# Altium integrated library Microchip Power Mgt Voltage Detector.IntLib: 116 symbols (part 1 of 3)
Pins are listed as number, name and electrical type; pins without a type are passive.

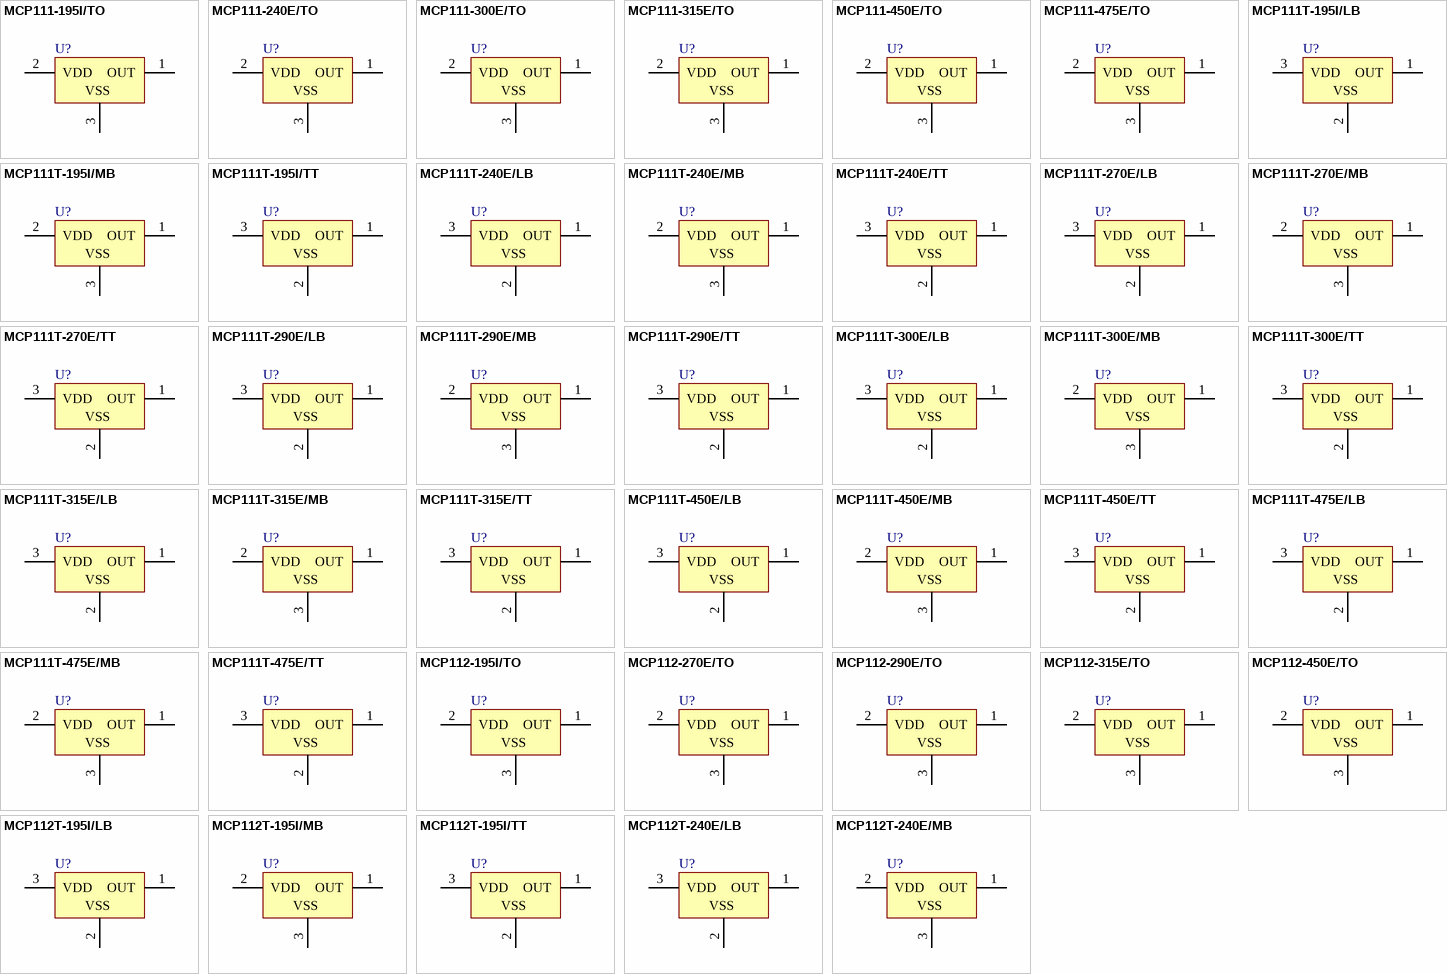
[diagram p0: symbols MCP111-195I/TO to MCP112T-240E/MB]

## MCP111-195I/TO
designator U?
1.75µA Micropower Voltage Detector, Open-Drain Output, 1.90V, 3-Pin TO-92, Industrial Temperature; Published: 29-Jan-2009; DatasheetVersion: revD, Jun-2005; PackageVersion: revBB, Aug-2009; PackageReference: TO-92-TO3; Publisher: Altium Limited; PackageDescription: 3-Lead Plastic Transistor Outline (TO) [TO-92]; Supplier 1: Digi-Key; Supplier Part Number 1: MCP111-195I/TO-ND; Supplier 2: Farnell; Supplier Part Number 2: 1439357; ComponentLink1Description: Datasheet; ComponentLink1URL: http://ww1.microchip.com/downloads/en/DeviceDoc/21889d.pdf; ComponentLink2Description: Packaging Specification; ComponentLink2URL: http://www.microchip.com/stellent/groups/techpub_sg/documents/packagingspec/en012702.pdf; ComponentLink3Description: Microchip.com Home; ComponentLink3URL: http://www.microchip.com/
footprint TO-92-TO3 (TO, Flat Index; 3 In-Line, Axial Leads; Body Dia. 4.8mm; Leads 0.56 x 0.53 mm (max))
pins: 1 OUT (power), 2 VDD (power), 3 VSS (power)

## MCP111-240E/TO
designator U?
1.75µA Micropower Voltage Detector, Open-Drain Output, 2.32V, 3-Pin TO-92, Extended Temperature; Published: 2-Dec-2009; DatasheetVersion: revD, Jun-2005; PackageVersion: revBB, Aug-2009; PackageReference: TO-92-TO3; Publisher: Altium Limited; PackageDescription: 3-Lead Plastic Transistor Outline (TO) [TO-92]; Supplier 1: Digi-Key; Supplier Part Number 1: MCP111-240E/TO-ND; ComponentLink1Description: Datasheet; ComponentLink1URL: http://ww1.microchip.com/downloads/en/DeviceDoc/21889d.pdf; ComponentLink2Description: Packaging Specification; ComponentLink2URL: http://www.microchip.com/stellent/groups/techpub_sg/documents/packagingspec/en012702.pdf; ComponentLink3Description: Microchip.com Home; ComponentLink3URL: http://www.microchip.com/
footprint TO-92-TO3 (TO, Flat Index; 3 In-Line, Axial Leads; Body Dia. 4.8mm; Leads 0.56 x 0.53 mm (max))
pins: 1 OUT (power), 2 VDD (power), 3 VSS (power)

## MCP111-300E/TO
designator U?
1.75µA Micropower Voltage Detector, Open-Drain Output, 2.93V, 3-Pin TO-92, Extended Temperature; Published: 2-Dec-2009; DatasheetVersion: revD, Jun-2005; PackageVersion: revBB, Aug-2009; PackageReference: TO-92-TO3; Publisher: Altium Limited; PackageDescription: 3-Lead Plastic Transistor Outline (TO) [TO-92]; Supplier 1: Digi-Key; Supplier Part Number 1: MCP111-300E/TO-ND; ComponentLink1Description: Datasheet; ComponentLink1URL: http://ww1.microchip.com/downloads/en/DeviceDoc/21889d.pdf; ComponentLink2Description: Packaging Specification; ComponentLink2URL: http://www.microchip.com/stellent/groups/techpub_sg/documents/packagingspec/en012702.pdf; ComponentLink3Description: Microchip.com Home; ComponentLink3URL: http://www.microchip.com/
footprint TO-92-TO3 (TO, Flat Index; 3 In-Line, Axial Leads; Body Dia. 4.8mm; Leads 0.56 x 0.53 mm (max))
pins: 1 OUT (power), 2 VDD (power), 3 VSS (power)

## MCP111-315E/TO
designator U?
1.75µA Micropower Voltage Detector, Open-Drain Output, 3.08V, 3-Pin TO-92, Extended Temperature; Published: 29-Jan-2009; DatasheetVersion: revD, Jun-2005; PackageVersion: revBB, Aug-2009; PackageReference: TO-92-TO3; Publisher: Altium Limited; PackageDescription: 3-Lead Plastic Transistor Outline (TO) [TO-92]; Supplier 1: Digi-Key; Supplier Part Number 1: MCP111-315E/TO-ND; ComponentLink1Description: Datasheet; ComponentLink1URL: http://ww1.microchip.com/downloads/en/DeviceDoc/21889d.pdf; ComponentLink2Description: Packaging Specification; ComponentLink2URL: http://www.microchip.com/stellent/groups/techpub_sg/documents/packagingspec/en012702.pdf; ComponentLink3Description: Microchip.com Home; ComponentLink3URL: http://www.microchip.com/
footprint TO-92-TO3 (TO, Flat Index; 3 In-Line, Axial Leads; Body Dia. 4.8mm; Leads 0.56 x 0.53 mm (max))
pins: 1 OUT (power), 2 VDD (power), 3 VSS (power)

## MCP111-450E/TO
designator U?
1.75µA Micropower Voltage Detector, Open-Drain Output, 4.38V, 3-Pin TO-92, Extended Temperature; Published: 2-Dec-2009; DatasheetVersion: revD, Jun-2005; PackageVersion: revBB, Aug-2009; PackageReference: TO-92-TO3; Publisher: Altium Limited; PackageDescription: 3-Lead Plastic Transistor Outline (TO) [TO-92]; Supplier 1: Digi-Key; Supplier Part Number 1: MCP111-450E/TO-ND; Supplier 2: Farnell; Supplier Part Number 2: 1332056; ComponentLink1Description: Datasheet; ComponentLink1URL: http://ww1.microchip.com/downloads/en/DeviceDoc/21889d.pdf; ComponentLink2Description: Packaging Specification; ComponentLink2URL: http://www.microchip.com/stellent/groups/techpub_sg/documents/packagingspec/en012702.pdf; ComponentLink3Description: Microchip.com Home; ComponentLink3URL: http://www.microchip.com/
footprint TO-92-TO3 (TO, Flat Index; 3 In-Line, Axial Leads; Body Dia. 4.8mm; Leads 0.56 x 0.53 mm (max))
pins: 1 OUT (power), 2 VDD (power), 3 VSS (power)

## MCP111-475E/TO
designator U?
1.75µA Micropower Voltage Detector, Open-Drain Output, 4.63V, 3-Pin TO-92, Extended Temperature; Published: 2-Dec-2009; DatasheetVersion: revD, Jun-2005; PackageVersion: revBB, Aug-2009; PackageReference: TO-92-TO3; Publisher: Altium Limited; PackageDescription: 3-Lead Plastic Transistor Outline (TO) [TO-92]; Supplier 1: Digi-Key; Supplier Part Number 1: MCP111-475E/TO-ND; ComponentLink1Description: Datasheet; ComponentLink1URL: http://ww1.microchip.com/downloads/en/DeviceDoc/21889d.pdf; ComponentLink2Description: Packaging Specification; ComponentLink2URL: http://www.microchip.com/stellent/groups/techpub_sg/documents/packagingspec/en012702.pdf; ComponentLink3Description: Microchip.com Home; ComponentLink3URL: http://www.microchip.com/
footprint TO-92-TO3 (TO, Flat Index; 3 In-Line, Axial Leads; Body Dia. 4.8mm; Leads 0.56 x 0.53 mm (max))
pins: 1 OUT (power), 2 VDD (power), 3 VSS (power)

## MCP111T-195I/LB
designator U?
1.75µA Micropower Voltage Detector, Open-Drain Output, 1.90V, 3-Pin SC-70, Industrial Temperature, Tape and Reel; Published: 29-Jan-2009; DatasheetVersion: revD, Jun-2005; PackageVersion: revBB, Aug-2009; PackageReference: SC70-LB3; Publisher: Altium Limited; PackageDescription: 3-Lead Plastic Small Outline Transistor (LB) [SC70]; Supplier 1: Digi-Key; Supplier Part Number 1: MCP111T-195I/LB-ND; ComponentLink1Description: Datasheet; ComponentLink1URL: http://ww1.microchip.com/downloads/en/DeviceDoc/21889d.pdf; ComponentLink2Description: Packaging Specification; ComponentLink2URL: http://www.microchip.com/stellent/groups/techpub_sg/documents/packagingspec/en012702.pdf; ComponentLink3Description: Microchip.com Home; ComponentLink3URL: http://www.microchip.com/
footprint SC70-LB3_N (SOT323, 3-Leads, Body 2.0x1.3mm, Pitch 0.65mm, Lead Span 2.1mm, IPC Medium Density)
footprint SC70-LB3_L (SOT323, 3-Leads, Body 2.0x1.3mm, Pitch 0.65mm, Lead Span 2.1mm, IPC High Density)
footprint SC70-LB3_M (SOT323, 3-Leads, Body 2.0x1.3mm, Pitch 0.65mm, Lead Span 2.1mm, IPC Low Density)
pins: 1 OUT (power), 2 VSS (power), 3 VDD (power)

## MCP111T-195I/MB
designator U?
1.75µA Micropower Voltage Detector, Open-Drain Output, 1.90V, 3-Pin SOT-89, Industrial Temperature, Tape and Reel; Published: 29-Jan-2009; DatasheetVersion: revD, Jun-2005; PackageVersion: revBB, Aug-2009; PackageReference: SOT-89-MB3; Publisher: Altium Limited; PackageDescription: 3-Lead Plastic Small Outline Transistor Header (MB) [SOT-89]; Code_IPC: SOT89; ComponentLink1Description: Datasheet; ComponentLink1URL: http://ww1.microchip.com/downloads/en/DeviceDoc/21889d.pdf; ComponentLink2Description: Packaging Specification; ComponentLink2URL: http://www.microchip.com/stellent/groups/techpub_sg/documents/packagingspec/en012702.pdf; ComponentLink3Description: Microchip.com Home; ComponentLink3URL: http://www.microchip.com/
footprint SOT-89-MB3_N (SOT89, 3-Leads, Body 4.5x2.4 mm, Pitch 1.5mm, Lead Span 4.1mm, IPC Medium Density)
footprint SOT-89-MB3_L (SOT89, 3-Leads, Body 4.5x2.4 mm, Pitch 1.5mm, Lead Span 4.1mm, IPC High Density)
footprint SOT-89-MB3_M (SOT89, 3-Leads, Body 4.5x2.4 mm, Pitch 1.5mm, Lead Span 4.1mm, IPC Low Density)
pins: 1 OUT (power), 2 VDD (power), 3 VSS (power)

## MCP111T-195I/TT
designator U?
1.75µA Micropower Voltage Detector, Open-Drain Output, 1.90V, 3-Pin SOT-23, Industrial Temperature, Tape and Reel; Published: 29-Jan-2009; DatasheetVersion: revD, Jun-2005; PackageVersion: revBB, Aug-2009; PackageReference: SOT-23-TT3; Publisher: Altium Limited; PackageDescription: 3-Lead Plastic Small Outline Transistor (TT) [SOT-23]; Supplier 1: Digi-Key; Supplier Part Number 1: MCP111T-195I/TT-ND; Code_IPC: SOT23-3; ComponentLink1Description: Datasheet; ComponentLink1URL: http://ww1.microchip.com/downloads/en/DeviceDoc/21889d.pdf; ComponentLink2Description: Packaging Specification; ComponentLink2URL: http://www.microchip.com/stellent/groups/techpub_sg/documents/packagingspec/en012702.pdf; ComponentLink3Description: Microchip.com Home; ComponentLink3URL: http://www.microchip.com/
footprint SOT-23-TT3_N (SOT23, 3-Leads, Body 2.9x1.3mm, Pitch 0.95mm, Lead Span 2.4mm, IPC Medium Density)
footprint SOT-23-TT3_L (SOT23, 3-Leads, Body 2.9x1.3mm, Pitch 0.95mm, Lead Span 2.4mm, IPC High Density)
footprint SOT-23-TT3_M (SOT23, 3-Leads, Body 2.9x1.3mm, Pitch 0.95mm, Lead Span 2.4mm, IPC Low Density)
pins: 1 OUT (power), 2 VSS (power), 3 VDD (power)

## MCP111T-240E/LB
designator U?
1.75µA Micropower Voltage Detector, Open-Drain Output, 2.32V, 3-Pin SC-70, Extended Temperature, Tape and Reel; Published: 29-Jan-2009; DatasheetVersion: revD, Jun-2005; PackageVersion: revBB, Aug-2009; PackageReference: SC70-LB3; Publisher: Altium Limited; PackageDescription: 3-Lead Plastic Small Outline Transistor (LB) [SC70]; Supplier 1: Digi-Key; Supplier Part Number 1: MCP111T-240E/LBTR-ND; Supplier 2: Digi-Key; Supplier Part Number 2: MCP111T-240E/LBCT-ND; Supplier 3: Digi-Key; Supplier Part Number 3: MCP111T-240E/LBDKR-ND; ComponentLink1Description: Datasheet; ComponentLink1URL: http://ww1.microchip.com/downloads/en/DeviceDoc/21889d.pdf; ComponentLink2Description: Packaging Specification; ComponentLink2URL: http://www.microchip.com/stellent/groups/techpub_sg/documents/packagingspec/en012702.pdf; ComponentLink3Description: Microchip.com Home; ComponentLink3URL: http://www.microchip.com/
footprint SC70-LB3_N (SOT323, 3-Leads, Body 2.0x1.3mm, Pitch 0.65mm, Lead Span 2.1mm, IPC Medium Density)
footprint SC70-LB3_L (SOT323, 3-Leads, Body 2.0x1.3mm, Pitch 0.65mm, Lead Span 2.1mm, IPC High Density)
footprint SC70-LB3_M (SOT323, 3-Leads, Body 2.0x1.3mm, Pitch 0.65mm, Lead Span 2.1mm, IPC Low Density)
pins: 1 OUT (power), 2 VSS (power), 3 VDD (power)

## MCP111T-240E/MB
designator U?
1.75µA Micropower Voltage Detector, Open-Drain Output, 2.32V, 3-Pin SOT-89, Extended Temperature, Tape and Reel; Published: 29-Jan-2009; DatasheetVersion: revD, Jun-2005; PackageVersion: revBB, Aug-2009; PackageReference: SOT-89-MB3; Publisher: Altium Limited; PackageDescription: 3-Lead Plastic Small Outline Transistor Header (MB) [SOT-89]; Supplier 1: Digi-Key; Supplier Part Number 1: MCP111T-240E/MB-ND; Code_IPC: SOT89; ComponentLink1Description: Datasheet; ComponentLink1URL: http://ww1.microchip.com/downloads/en/DeviceDoc/21889d.pdf; ComponentLink2Description: Packaging Specification; ComponentLink2URL: http://www.microchip.com/stellent/groups/techpub_sg/documents/packagingspec/en012702.pdf; ComponentLink3Description: Microchip.com Home; ComponentLink3URL: http://www.microchip.com/
footprint SOT-89-MB3_N (SOT89, 3-Leads, Body 4.5x2.4 mm, Pitch 1.5mm, Lead Span 4.1mm, IPC Medium Density)
footprint SOT-89-MB3_L (SOT89, 3-Leads, Body 4.5x2.4 mm, Pitch 1.5mm, Lead Span 4.1mm, IPC High Density)
footprint SOT-89-MB3_M (SOT89, 3-Leads, Body 4.5x2.4 mm, Pitch 1.5mm, Lead Span 4.1mm, IPC Low Density)
pins: 1 OUT (power), 2 VDD (power), 3 VSS (power)

## MCP111T-240E/TT
designator U?
1.75µA Micropower Voltage Detector, Open-Drain Output, 2.32V, 3-Pin SOT-23, Extended Temperature, Tape and Reel; Published: 29-Jan-2009; DatasheetVersion: revD, Jun-2005; PackageVersion: revBB, Aug-2009; PackageReference: SOT-23-TT3; Publisher: Altium Limited; PackageDescription: 3-Lead Plastic Small Outline Transistor (TT) [SOT-23]; Supplier 1: Digi-Key; Supplier Part Number 1: MCP111T-240E/TTTR-ND; Supplier 2: Digi-Key; Supplier Part Number 2: MCP111T-240E/TTCT-ND; Supplier 3: Digi-Key; Supplier Part Number 3: MCP111T-240E/TTDKR-ND; Supplier 4: Farnell; Supplier Part Number 4: 1627192; Code_IPC: SOT23-3; ComponentLink1Description: Datasheet; ComponentLink1URL: http://ww1.microchip.com/downloads/en/DeviceDoc/21889d.pdf; ComponentLink2Description: Packaging Specification; ComponentLink2URL: http://www.microchip.com/stellent/groups/techpub_sg/documents/packagingspec/en012702.pdf; ComponentLink3Description: Microchip.com Home; ComponentLink3URL: http://www.microchip.com/
footprint SOT-23-TT3_N (SOT23, 3-Leads, Body 2.9x1.3mm, Pitch 0.95mm, Lead Span 2.4mm, IPC Medium Density)
footprint SOT-23-TT3_L (SOT23, 3-Leads, Body 2.9x1.3mm, Pitch 0.95mm, Lead Span 2.4mm, IPC High Density)
footprint SOT-23-TT3_M (SOT23, 3-Leads, Body 2.9x1.3mm, Pitch 0.95mm, Lead Span 2.4mm, IPC Low Density)
pins: 1 OUT (power), 2 VSS (power), 3 VDD (power)

## MCP111T-270E/LB
designator U?
1.75µA Micropower Voltage Detector, Open-Drain Output, 2.63V, 3-Pin SC-70, Extended Temperature, Tape and Reel; Published: 29-Jan-2009; DatasheetVersion: revD, Jun-2005; PackageVersion: revBB, Aug-2009; PackageReference: SC70-LB3; Publisher: Altium Limited; PackageDescription: 3-Lead Plastic Small Outline Transistor (LB) [SC70]; Supplier 1: Digi-Key; Supplier Part Number 1: MCP111T-270E/LBTR-ND; Supplier 2: Digi-Key; Supplier Part Number 2: MCP111T-270E/LBCT-ND; Supplier 3: Digi-Key; Supplier Part Number 3: MCP111T-270E/LBDKR-ND; ComponentLink1Description: Datasheet; ComponentLink1URL: http://ww1.microchip.com/downloads/en/DeviceDoc/21889d.pdf; ComponentLink2Description: Packaging Specification; ComponentLink2URL: http://www.microchip.com/stellent/groups/techpub_sg/documents/packagingspec/en012702.pdf; ComponentLink3Description: Microchip.com Home; ComponentLink3URL: http://www.microchip.com/
footprint SC70-LB3_N (SOT323, 3-Leads, Body 2.0x1.3mm, Pitch 0.65mm, Lead Span 2.1mm, IPC Medium Density)
footprint SC70-LB3_L (SOT323, 3-Leads, Body 2.0x1.3mm, Pitch 0.65mm, Lead Span 2.1mm, IPC High Density)
footprint SC70-LB3_M (SOT323, 3-Leads, Body 2.0x1.3mm, Pitch 0.65mm, Lead Span 2.1mm, IPC Low Density)
pins: 1 OUT (power), 2 VSS (power), 3 VDD (power)

## MCP111T-270E/MB
designator U?
1.75µA Micropower Voltage Detector, Open-Drain Output, 2.63V, 3-Pin SOT-89, Extended Temperature, Tape and Reel; Published: 29-Jan-2009; DatasheetVersion: revD, Jun-2005; PackageVersion: revBB, Aug-2009; PackageReference: SOT-89-MB3; Publisher: Altium Limited; PackageDescription: 3-Lead Plastic Small Outline Transistor Header (MB) [SOT-89]; Supplier 1: Digi-Key; Supplier Part Number 1: MCP111T-270E/MB-ND; Code_IPC: SOT89; ComponentLink1Description: Datasheet; ComponentLink1URL: http://ww1.microchip.com/downloads/en/DeviceDoc/21889d.pdf; ComponentLink2Description: Packaging Specification; ComponentLink2URL: http://www.microchip.com/stellent/groups/techpub_sg/documents/packagingspec/en012702.pdf; ComponentLink3Description: Microchip.com Home; ComponentLink3URL: http://www.microchip.com/
footprint SOT-89-MB3_N (SOT89, 3-Leads, Body 4.5x2.4 mm, Pitch 1.5mm, Lead Span 4.1mm, IPC Medium Density)
footprint SOT-89-MB3_L (SOT89, 3-Leads, Body 4.5x2.4 mm, Pitch 1.5mm, Lead Span 4.1mm, IPC High Density)
footprint SOT-89-MB3_M (SOT89, 3-Leads, Body 4.5x2.4 mm, Pitch 1.5mm, Lead Span 4.1mm, IPC Low Density)
pins: 1 OUT (power), 2 VDD (power), 3 VSS (power)

## MCP111T-270E/TT
designator U?
1.75µA Micropower Voltage Detector, Open-Drain Output, 2.63V, 3-Pin SOT-23, Extended Temperature, Tape and Reel; Published: 29-Jan-2009; DatasheetVersion: revD, Jun-2005; PackageVersion: revBB, Aug-2009; PackageReference: SOT-23-TT3; Publisher: Altium Limited; PackageDescription: 3-Lead Plastic Small Outline Transistor (TT) [SOT-23]; Supplier 1: Digi-Key; Supplier Part Number 1: MCP111T-270E/TTTR-ND; Supplier 2: Digi-Key; Supplier Part Number 2: MCP111T-270E/TTCT-ND; Supplier 3: Digi-Key; Supplier Part Number 3: MCP111T-270E/TTDKR-ND; Code_IPC: SOT23-3; ComponentLink1Description: Datasheet; ComponentLink1URL: http://ww1.microchip.com/downloads/en/DeviceDoc/21889d.pdf; ComponentLink2Description: Packaging Specification; ComponentLink2URL: http://www.microchip.com/stellent/groups/techpub_sg/documents/packagingspec/en012702.pdf; ComponentLink3Description: Microchip.com Home; ComponentLink3URL: http://www.microchip.com/
footprint SOT-23-TT3_N (SOT23, 3-Leads, Body 2.9x1.3mm, Pitch 0.95mm, Lead Span 2.4mm, IPC Medium Density)
footprint SOT-23-TT3_L (SOT23, 3-Leads, Body 2.9x1.3mm, Pitch 0.95mm, Lead Span 2.4mm, IPC High Density)
footprint SOT-23-TT3_M (SOT23, 3-Leads, Body 2.9x1.3mm, Pitch 0.95mm, Lead Span 2.4mm, IPC Low Density)
pins: 1 OUT (power), 2 VSS (power), 3 VDD (power)

## MCP111T-290E/LB
designator U?
1.75µA Micropower Voltage Detector, Open-Drain Output, 2.90V, 3-Pin SC-70, Extended Temperature, Tape and Reel; Published: 29-Jan-2009; DatasheetVersion: revD, Jun-2005; PackageVersion: revBB, Aug-2009; PackageReference: SC70-LB3; Publisher: Altium Limited; PackageDescription: 3-Lead Plastic Small Outline Transistor (LB) [SC70]; Supplier 1: Digi-Key; Supplier Part Number 1: MCP111T-290E/LBTR-ND; Supplier 2: Digi-Key; Supplier Part Number 2: MCP111T-290E/LBCT-ND; Supplier 3: Digi-Key; Supplier Part Number 3: MCP111T-290E/LBDKR-ND; Supplier 4: Farnell; Supplier Part Number 4: 1834874; ComponentLink1Description: Datasheet; ComponentLink1URL: http://ww1.microchip.com/downloads/en/DeviceDoc/21889d.pdf; ComponentLink2Description: Packaging Specification; ComponentLink2URL: http://www.microchip.com/stellent/groups/techpub_sg/documents/packagingspec/en012702.pdf; ComponentLink3Description: Microchip.com Home; ComponentLink3URL: http://www.microchip.com/
footprint SC70-LB3_N (SOT323, 3-Leads, Body 2.0x1.3mm, Pitch 0.65mm, Lead Span 2.1mm, IPC Medium Density)
footprint SC70-LB3_L (SOT323, 3-Leads, Body 2.0x1.3mm, Pitch 0.65mm, Lead Span 2.1mm, IPC High Density)
footprint SC70-LB3_M (SOT323, 3-Leads, Body 2.0x1.3mm, Pitch 0.65mm, Lead Span 2.1mm, IPC Low Density)
pins: 1 OUT (power), 2 VSS (power), 3 VDD (power)

## MCP111T-290E/MB
designator U?
1.75µA Micropower Voltage Detector, Open-Drain Output, 2.90V, 3-Pin SOT-89, Extended Temperature, Tape and Reel; Published: 29-Jan-2009; DatasheetVersion: revD, Jun-2005; PackageVersion: revBB, Aug-2009; PackageReference: SOT-89-MB3; Publisher: Altium Limited; PackageDescription: 3-Lead Plastic Small Outline Transistor Header (MB) [SOT-89]; Supplier 1: Digi-Key; Supplier Part Number 1: MCP111T-290E/MB-ND; Code_IPC: SOT89; ComponentLink1Description: Datasheet; ComponentLink1URL: http://ww1.microchip.com/downloads/en/DeviceDoc/21889d.pdf; ComponentLink2Description: Packaging Specification; ComponentLink2URL: http://www.microchip.com/stellent/groups/techpub_sg/documents/packagingspec/en012702.pdf; ComponentLink3Description: Microchip.com Home; ComponentLink3URL: http://www.microchip.com/
footprint SOT-89-MB3_N (SOT89, 3-Leads, Body 4.5x2.4 mm, Pitch 1.5mm, Lead Span 4.1mm, IPC Medium Density)
footprint SOT-89-MB3_L (SOT89, 3-Leads, Body 4.5x2.4 mm, Pitch 1.5mm, Lead Span 4.1mm, IPC High Density)
footprint SOT-89-MB3_M (SOT89, 3-Leads, Body 4.5x2.4 mm, Pitch 1.5mm, Lead Span 4.1mm, IPC Low Density)
pins: 1 OUT (power), 2 VDD (power), 3 VSS (power)

## MCP111T-290E/TT
designator U?
1.75µA Micropower Voltage Detector, Open-Drain Output, 2.90V, 3-Pin SOT-23, Extended Temperature, Tape and Reel; Published: 29-Jan-2009; DatasheetVersion: revD, Jun-2005; PackageVersion: revBB, Aug-2009; PackageReference: SOT-23-TT3; Publisher: Altium Limited; PackageDescription: 3-Lead Plastic Small Outline Transistor (TT) [SOT-23]; Supplier 1: Digi-Key; Supplier Part Number 1: MCP111T-290E/TTTR-ND; Supplier 2: Digi-Key; Supplier Part Number 2: MCP111T-290E/TTCT-ND; Supplier 3: Digi-Key; Supplier Part Number 3: MCP111T-290E/TTDKR-ND; Supplier 4: Farnell; Supplier Part Number 4: 1332057; Code_IPC: SOT23-3; ComponentLink1Description: Datasheet; ComponentLink1URL: http://ww1.microchip.com/downloads/en/DeviceDoc/21889d.pdf; ComponentLink2Description: Packaging Specification; ComponentLink2URL: http://www.microchip.com/stellent/groups/techpub_sg/documents/packagingspec/en012702.pdf; ComponentLink3Description: Microchip.com Home; ComponentLink3URL: http://www.microchip.com/
footprint SOT-23-TT3_N (SOT23, 3-Leads, Body 2.9x1.3mm, Pitch 0.95mm, Lead Span 2.4mm, IPC Medium Density)
footprint SOT-23-TT3_L (SOT23, 3-Leads, Body 2.9x1.3mm, Pitch 0.95mm, Lead Span 2.4mm, IPC High Density)
footprint SOT-23-TT3_M (SOT23, 3-Leads, Body 2.9x1.3mm, Pitch 0.95mm, Lead Span 2.4mm, IPC Low Density)
pins: 1 OUT (power), 2 VSS (power), 3 VDD (power)

## MCP111T-300E/LB
designator U?
1.75µA Micropower Voltage Detector, Open-Drain Output, 2.93V, 3-Pin SC-70, Extended Temperature, Tape and Reel; Published: 29-Jan-2009; DatasheetVersion: revD, Jun-2005; PackageVersion: revBB, Aug-2009; PackageReference: SC70-LB3; Publisher: Altium Limited; PackageDescription: 3-Lead Plastic Small Outline Transistor (LB) [SC70]; Supplier 1: Digi-Key; Supplier Part Number 1: MCP111T-300E/LBTR-ND; Supplier 2: Digi-Key; Supplier Part Number 2: MCP111T-300E/LBCT-ND; Supplier 3: Digi-Key; Supplier Part Number 3: MCP111T-300E/LBDKR-ND; ComponentLink1Description: Datasheet; ComponentLink1URL: http://ww1.microchip.com/downloads/en/DeviceDoc/21889d.pdf; ComponentLink2Description: Packaging Specification; ComponentLink2URL: http://www.microchip.com/stellent/groups/techpub_sg/documents/packagingspec/en012702.pdf; ComponentLink3Description: Microchip.com Home; ComponentLink3URL: http://www.microchip.com/
footprint SC70-LB3_N (SOT323, 3-Leads, Body 2.0x1.3mm, Pitch 0.65mm, Lead Span 2.1mm, IPC Medium Density)
footprint SC70-LB3_L (SOT323, 3-Leads, Body 2.0x1.3mm, Pitch 0.65mm, Lead Span 2.1mm, IPC High Density)
footprint SC70-LB3_M (SOT323, 3-Leads, Body 2.0x1.3mm, Pitch 0.65mm, Lead Span 2.1mm, IPC Low Density)
pins: 1 OUT (power), 2 VSS (power), 3 VDD (power)

## MCP111T-300E/MB
designator U?
1.75µA Micropower Voltage Detector, Open-Drain Output, 2.93V, 3-Pin SOT-89, Extended Temperature, Tape and Reel; Published: 29-Jan-2009; DatasheetVersion: revD, Jun-2005; PackageVersion: revBB, Aug-2009; PackageReference: SOT-89-MB3; Publisher: Altium Limited; PackageDescription: 3-Lead Plastic Small Outline Transistor Header (MB) [SOT-89]; Supplier 1: Digi-Key; Supplier Part Number 1: MCP111T-300E/MB-ND; Code_IPC: SOT89; ComponentLink1Description: Datasheet; ComponentLink1URL: http://ww1.microchip.com/downloads/en/DeviceDoc/21889d.pdf; ComponentLink2Description: Packaging Specification; ComponentLink2URL: http://www.microchip.com/stellent/groups/techpub_sg/documents/packagingspec/en012702.pdf; ComponentLink3Description: Microchip.com Home; ComponentLink3URL: http://www.microchip.com/
footprint SOT-89-MB3_N (SOT89, 3-Leads, Body 4.5x2.4 mm, Pitch 1.5mm, Lead Span 4.1mm, IPC Medium Density)
footprint SOT-89-MB3_L (SOT89, 3-Leads, Body 4.5x2.4 mm, Pitch 1.5mm, Lead Span 4.1mm, IPC High Density)
footprint SOT-89-MB3_M (SOT89, 3-Leads, Body 4.5x2.4 mm, Pitch 1.5mm, Lead Span 4.1mm, IPC Low Density)
pins: 1 OUT (power), 2 VDD (power), 3 VSS (power)

## MCP111T-300E/TT
designator U?
1.75µA Micropower Voltage Detector, Open-Drain Output, 2.93V, 3-Pin SOT-23, Extended Temperature, Tape and Reel; Published: 29-Jan-2009; DatasheetVersion: revD, Jun-2005; PackageVersion: revBB, Aug-2009; PackageReference: SOT-23-TT3; Publisher: Altium Limited; PackageDescription: 3-Lead Plastic Small Outline Transistor (TT) [SOT-23]; Supplier 1: Digi-Key; Supplier Part Number 1: MCP111T-300E/TTTR-ND; Supplier 2: Digi-Key; Supplier Part Number 2: MCP111T-300E/TTCT-ND; Supplier 3: Digi-Key; Supplier Part Number 3: MCP111T-300E/TTDKR-ND; Supplier 4: Farnell; Supplier Part Number 4: 1605552; Code_IPC: SOT23-3; ComponentLink1Description: Datasheet; ComponentLink1URL: http://ww1.microchip.com/downloads/en/DeviceDoc/21889d.pdf; ComponentLink2Description: Packaging Specification; ComponentLink2URL: http://www.microchip.com/stellent/groups/techpub_sg/documents/packagingspec/en012702.pdf; ComponentLink3Description: Microchip.com Home; ComponentLink3URL: http://www.microchip.com/
footprint SOT-23-TT3_N (SOT23, 3-Leads, Body 2.9x1.3mm, Pitch 0.95mm, Lead Span 2.4mm, IPC Medium Density)
footprint SOT-23-TT3_L (SOT23, 3-Leads, Body 2.9x1.3mm, Pitch 0.95mm, Lead Span 2.4mm, IPC High Density)
footprint SOT-23-TT3_M (SOT23, 3-Leads, Body 2.9x1.3mm, Pitch 0.95mm, Lead Span 2.4mm, IPC Low Density)
pins: 1 OUT (power), 2 VSS (power), 3 VDD (power)

## MCP111T-315E/LB
designator U?
1.75µA Micropower Voltage Detector, Open-Drain Output, 3.08V, 3-Pin SC-70, Extended Temperature, Tape and Reel; Published: 29-Jan-2009; DatasheetVersion: revD, Jun-2005; PackageVersion: revBB, Aug-2009; PackageReference: SC70-LB3; Publisher: Altium Limited; PackageDescription: 3-Lead Plastic Small Outline Transistor (LB) [SC70]; Supplier 1: Digi-Key; Supplier Part Number 1: MCP111T-315E/LBTR-ND; Supplier 2: Digi-Key; Supplier Part Number 2: MCP111T-315E/LBCT-ND; Supplier 3: Digi-Key; Supplier Part Number 3: MCP111T-315E/LBDKR-ND; ComponentLink1Description: Datasheet; ComponentLink1URL: http://ww1.microchip.com/downloads/en/DeviceDoc/21889d.pdf; ComponentLink2Description: Packaging Specification; ComponentLink2URL: http://www.microchip.com/stellent/groups/techpub_sg/documents/packagingspec/en012702.pdf; ComponentLink3Description: Microchip.com Home; ComponentLink3URL: http://www.microchip.com/
footprint SC70-LB3_N (SOT323, 3-Leads, Body 2.0x1.3mm, Pitch 0.65mm, Lead Span 2.1mm, IPC Medium Density)
footprint SC70-LB3_L (SOT323, 3-Leads, Body 2.0x1.3mm, Pitch 0.65mm, Lead Span 2.1mm, IPC High Density)
footprint SC70-LB3_M (SOT323, 3-Leads, Body 2.0x1.3mm, Pitch 0.65mm, Lead Span 2.1mm, IPC Low Density)
pins: 1 OUT (power), 2 VSS (power), 3 VDD (power)

## MCP111T-315E/MB
designator U?
1.75µA Micropower Voltage Detector, Open-Drain Output, 3.08V, 3-Pin SOT-89, Extended Temperature, Tape and Reel; Published: 29-Jan-2009; DatasheetVersion: revD, Jun-2005; PackageVersion: revBB, Aug-2009; PackageReference: SOT-89-MB3; Publisher: Altium Limited; PackageDescription: 3-Lead Plastic Small Outline Transistor Header (MB) [SOT-89]; Supplier 1: Digi-Key; Supplier Part Number 1: MCP111T-315E/MB-ND; Code_IPC: SOT89; ComponentLink1Description: Datasheet; ComponentLink1URL: http://ww1.microchip.com/downloads/en/DeviceDoc/21889d.pdf; ComponentLink2Description: Packaging Specification; ComponentLink2URL: http://www.microchip.com/stellent/groups/techpub_sg/documents/packagingspec/en012702.pdf; ComponentLink3Description: Microchip.com Home; ComponentLink3URL: http://www.microchip.com/
footprint SOT-89-MB3_N (SOT89, 3-Leads, Body 4.5x2.4 mm, Pitch 1.5mm, Lead Span 4.1mm, IPC Medium Density)
footprint SOT-89-MB3_L (SOT89, 3-Leads, Body 4.5x2.4 mm, Pitch 1.5mm, Lead Span 4.1mm, IPC High Density)
footprint SOT-89-MB3_M (SOT89, 3-Leads, Body 4.5x2.4 mm, Pitch 1.5mm, Lead Span 4.1mm, IPC Low Density)
pins: 1 OUT (power), 2 VDD (power), 3 VSS (power)

## MCP111T-315E/TT
designator U?
1.75µA Micropower Voltage Detector, Open-Drain Output, 3.08V, 3-Pin SOT-23, Extended Temperature, Tape and Reel; Published: 29-Jan-2009; DatasheetVersion: revD, Jun-2005; PackageVersion: revBB, Aug-2009; PackageReference: SOT-23-TT3; Publisher: Altium Limited; PackageDescription: 3-Lead Plastic Small Outline Transistor (TT) [SOT-23]; Supplier 1: Digi-Key; Supplier Part Number 1: MCP111T-315E/TTTR-ND; Supplier 2: Digi-Key; Supplier Part Number 2: MCP111T-315E/TTCT-ND; Supplier 3: Digi-Key; Supplier Part Number 3: MCP111T-315E/TTDKR-ND; Supplier 4: Farnell; Supplier Part Number 4: 1627194; Code_IPC: SOT23-3; ComponentLink1Description: Datasheet; ComponentLink1URL: http://ww1.microchip.com/downloads/en/DeviceDoc/21889d.pdf; ComponentLink2Description: Packaging Specification; ComponentLink2URL: http://www.microchip.com/stellent/groups/techpub_sg/documents/packagingspec/en012702.pdf; ComponentLink3Description: Microchip.com Home; ComponentLink3URL: http://www.microchip.com/
footprint SOT-23-TT3_N (SOT23, 3-Leads, Body 2.9x1.3mm, Pitch 0.95mm, Lead Span 2.4mm, IPC Medium Density)
footprint SOT-23-TT3_L (SOT23, 3-Leads, Body 2.9x1.3mm, Pitch 0.95mm, Lead Span 2.4mm, IPC High Density)
footprint SOT-23-TT3_M (SOT23, 3-Leads, Body 2.9x1.3mm, Pitch 0.95mm, Lead Span 2.4mm, IPC Low Density)
pins: 1 OUT (power), 2 VSS (power), 3 VDD (power)

## MCP111T-450E/LB
designator U?
1.75µA Micropower Voltage Detector, Open-Drain Output, 4.38V, 3-Pin SC-70, Extended Temperature, Tape and Reel; Published: 29-Jan-2009; DatasheetVersion: revD, Jun-2005; PackageVersion: revBB, Aug-2009; PackageReference: SC70-LB3; Publisher: Altium Limited; PackageDescription: 3-Lead Plastic Small Outline Transistor (LB) [SC70]; Supplier 1: Digi-Key; Supplier Part Number 1: MCP111T-450E/LBTR-ND; Supplier 2: Digi-Key; Supplier Part Number 2: MCP111T-450E/LBCT-ND; Supplier 3: Digi-Key; Supplier Part Number 3: MCP111T-450E/LBDKR-ND; Supplier 4: Farnell; Supplier Part Number 4: 1834875; ComponentLink1Description: Datasheet; ComponentLink1URL: http://ww1.microchip.com/downloads/en/DeviceDoc/21889d.pdf; ComponentLink2Description: Packaging Specification; ComponentLink2URL: http://www.microchip.com/stellent/groups/techpub_sg/documents/packagingspec/en012702.pdf; ComponentLink3Description: Microchip.com Home; ComponentLink3URL: http://www.microchip.com/
footprint SC70-LB3_N (SOT323, 3-Leads, Body 2.0x1.3mm, Pitch 0.65mm, Lead Span 2.1mm, IPC Medium Density)
footprint SC70-LB3_L (SOT323, 3-Leads, Body 2.0x1.3mm, Pitch 0.65mm, Lead Span 2.1mm, IPC High Density)
footprint SC70-LB3_M (SOT323, 3-Leads, Body 2.0x1.3mm, Pitch 0.65mm, Lead Span 2.1mm, IPC Low Density)
pins: 1 OUT (power), 2 VSS (power), 3 VDD (power)

## MCP111T-450E/MB
designator U?
1.75µA Micropower Voltage Detector, Open-Drain Output, 4.38V, 3-Pin SOT-89, Extended Temperature, Tape and Reel; Published: 29-Jan-2009; DatasheetVersion: revD, Jun-2005; PackageVersion: revBB, Aug-2009; PackageReference: SOT-89-MB3; Publisher: Altium Limited; PackageDescription: 3-Lead Plastic Small Outline Transistor Header (MB) [SOT-89]; Supplier 1: Digi-Key; Supplier Part Number 1: MCP111T-450E/MB-ND; Code_IPC: SOT89; ComponentLink1Description: Datasheet; ComponentLink1URL: http://ww1.microchip.com/downloads/en/DeviceDoc/21889d.pdf; ComponentLink2Description: Packaging Specification; ComponentLink2URL: http://www.microchip.com/stellent/groups/techpub_sg/documents/packagingspec/en012702.pdf; ComponentLink3Description: Microchip.com Home; ComponentLink3URL: http://www.microchip.com/
footprint SOT-89-MB3_N (SOT89, 3-Leads, Body 4.5x2.4 mm, Pitch 1.5mm, Lead Span 4.1mm, IPC Medium Density)
footprint SOT-89-MB3_L (SOT89, 3-Leads, Body 4.5x2.4 mm, Pitch 1.5mm, Lead Span 4.1mm, IPC High Density)
footprint SOT-89-MB3_M (SOT89, 3-Leads, Body 4.5x2.4 mm, Pitch 1.5mm, Lead Span 4.1mm, IPC Low Density)
pins: 1 OUT (power), 2 VDD (power), 3 VSS (power)

## MCP111T-450E/TT
designator U?
1.75µA Micropower Voltage Detector, Open-Drain Output, 4.38V, 3-Pin SOT-23, Extended Temperature, Tape and Reel; Published: 29-Jan-2009; DatasheetVersion: revD, Jun-2005; PackageVersion: revBB, Aug-2009; PackageReference: SOT-23-TT3; Publisher: Altium Limited; PackageDescription: 3-Lead Plastic Small Outline Transistor (TT) [SOT-23]; Supplier 1: Digi-Key; Supplier Part Number 1: MCP111T-450E/TTTR-ND; Supplier 2: Digi-Key; Supplier Part Number 2: MCP111T-450E/TTCT-ND; Supplier 3: Digi-Key; Supplier Part Number 3: MCP111T-450E/TTDKR-ND; Supplier 4: Farnell; Supplier Part Number 4: 1332058; Code_IPC: SOT23-3; ComponentLink1Description: Datasheet; ComponentLink1URL: http://ww1.microchip.com/downloads/en/DeviceDoc/21889d.pdf; ComponentLink2Description: Packaging Specification; ComponentLink2URL: http://www.microchip.com/stellent/groups/techpub_sg/documents/packagingspec/en012702.pdf; ComponentLink3Description: Microchip.com Home; ComponentLink3URL: http://www.microchip.com/
footprint SOT-23-TT3_N (SOT23, 3-Leads, Body 2.9x1.3mm, Pitch 0.95mm, Lead Span 2.4mm, IPC Medium Density)
footprint SOT-23-TT3_L (SOT23, 3-Leads, Body 2.9x1.3mm, Pitch 0.95mm, Lead Span 2.4mm, IPC High Density)
footprint SOT-23-TT3_M (SOT23, 3-Leads, Body 2.9x1.3mm, Pitch 0.95mm, Lead Span 2.4mm, IPC Low Density)
pins: 1 OUT (power), 2 VSS (power), 3 VDD (power)

## MCP111T-475E/LB
designator U?
1.75µA Micropower Voltage Detector, Open-Drain Output, 4.63V, 3-Pin SC-70, Extended Temperature, Tape and Reel; Published: 29-Jan-2009; DatasheetVersion: revD, Jun-2005; PackageVersion: revBB, Aug-2009; PackageReference: SC70-LB3; Publisher: Altium Limited; PackageDescription: 3-Lead Plastic Small Outline Transistor (LB) [SC70]; Supplier 1: Digi-Key; Supplier Part Number 1: MCP111T-475E/LBTR-ND; Supplier 2: Digi-Key; Supplier Part Number 2: MCP111T-475E/LBCT-ND; Supplier 3: Digi-Key; Supplier Part Number 3: MCP111T-475E/LBDKR-ND; ComponentLink1Description: Datasheet; ComponentLink1URL: http://ww1.microchip.com/downloads/en/DeviceDoc/21889d.pdf; ComponentLink2Description: Packaging Specification; ComponentLink2URL: http://www.microchip.com/stellent/groups/techpub_sg/documents/packagingspec/en012702.pdf; ComponentLink3Description: Microchip.com Home; ComponentLink3URL: http://www.microchip.com/
footprint SC70-LB3_N (SOT323, 3-Leads, Body 2.0x1.3mm, Pitch 0.65mm, Lead Span 2.1mm, IPC Medium Density)
footprint SC70-LB3_L (SOT323, 3-Leads, Body 2.0x1.3mm, Pitch 0.65mm, Lead Span 2.1mm, IPC High Density)
footprint SC70-LB3_M (SOT323, 3-Leads, Body 2.0x1.3mm, Pitch 0.65mm, Lead Span 2.1mm, IPC Low Density)
pins: 1 OUT (power), 2 VSS (power), 3 VDD (power)

## MCP111T-475E/MB
designator U?
1.75µA Micropower Voltage Detector, Open-Drain Output, 4.63V, 3-Pin SOT-89, Extended Temperature, Tape and Reel; Published: 29-Jan-2009; DatasheetVersion: revD, Jun-2005; PackageVersion: revBB, Aug-2009; PackageReference: SOT-89-MB3; Publisher: Altium Limited; PackageDescription: 3-Lead Plastic Small Outline Transistor Header (MB) [SOT-89]; Supplier 1: Digi-Key; Supplier Part Number 1: MCP111T-475E/MB-ND; Code_IPC: SOT89; ComponentLink1Description: Datasheet; ComponentLink1URL: http://ww1.microchip.com/downloads/en/DeviceDoc/21889d.pdf; ComponentLink2Description: Packaging Specification; ComponentLink2URL: http://www.microchip.com/stellent/groups/techpub_sg/documents/packagingspec/en012702.pdf; ComponentLink3Description: Microchip.com Home; ComponentLink3URL: http://www.microchip.com/
footprint SOT-89-MB3_N (SOT89, 3-Leads, Body 4.5x2.4 mm, Pitch 1.5mm, Lead Span 4.1mm, IPC Medium Density)
footprint SOT-89-MB3_L (SOT89, 3-Leads, Body 4.5x2.4 mm, Pitch 1.5mm, Lead Span 4.1mm, IPC High Density)
footprint SOT-89-MB3_M (SOT89, 3-Leads, Body 4.5x2.4 mm, Pitch 1.5mm, Lead Span 4.1mm, IPC Low Density)
pins: 1 OUT (power), 2 VDD (power), 3 VSS (power)

## MCP111T-475E/TT
designator U?
1.75µA Micropower Voltage Detector, Open-Drain Output, 4.63V, 3-Pin SOT-23, Extended Temperature, Tape and Reel; Published: 29-Jan-2009; DatasheetVersion: revD, Jun-2005; PackageVersion: revBB, Aug-2009; PackageReference: SOT-23-TT3; Publisher: Altium Limited; PackageDescription: 3-Lead Plastic Small Outline Transistor (TT) [SOT-23]; Supplier 1: Digi-Key; Supplier Part Number 1: MCP111T-475E/TTTR-ND; Supplier 2: Digi-Key; Supplier Part Number 2: MCP111T-475E/TTCT-ND; Supplier 3: Digi-Key; Supplier Part Number 3: MCP111T-475E/TTDKR-ND; Code_IPC: SOT23-3; ComponentLink1Description: Datasheet; ComponentLink1URL: http://ww1.microchip.com/downloads/en/DeviceDoc/21889d.pdf; ComponentLink2Description: Packaging Specification; ComponentLink2URL: http://www.microchip.com/stellent/groups/techpub_sg/documents/packagingspec/en012702.pdf; ComponentLink3Description: Microchip.com Home; ComponentLink3URL: http://www.microchip.com/
footprint SOT-23-TT3_N (SOT23, 3-Leads, Body 2.9x1.3mm, Pitch 0.95mm, Lead Span 2.4mm, IPC Medium Density)
footprint SOT-23-TT3_L (SOT23, 3-Leads, Body 2.9x1.3mm, Pitch 0.95mm, Lead Span 2.4mm, IPC High Density)
footprint SOT-23-TT3_M (SOT23, 3-Leads, Body 2.9x1.3mm, Pitch 0.95mm, Lead Span 2.4mm, IPC Low Density)
pins: 1 OUT (power), 2 VSS (power), 3 VDD (power)

## MCP112-195I/TO
designator U?
1.75µA Micropower Voltage Detector, Push-Pull Output, 1.90V, 3-Pin TO-92, Industrial Temperature; Published: 29-Jan-2009; DatasheetVersion: revD, Jun-2005; PackageVersion: revBB, Aug-2009; PackageReference: TO-92-TO3; Publisher: Altium Limited; PackageDescription: 3-Lead Plastic Transistor Outline (TO) [TO-92]; Supplier 1: Digi-Key; Supplier Part Number 1: MCP112-195I/TO-ND; ComponentLink1Description: Datasheet; ComponentLink1URL: http://ww1.microchip.com/downloads/en/DeviceDoc/21889d.pdf; ComponentLink2Description: Packaging Specification; ComponentLink2URL: http://www.microchip.com/stellent/groups/techpub_sg/documents/packagingspec/en012702.pdf; ComponentLink3Description: Microchip.com Home; ComponentLink3URL: http://www.microchip.com/
footprint TO-92-TO3 (TO, Flat Index; 3 In-Line, Axial Leads; Body Dia. 4.8mm; Leads 0.56 x 0.53 mm (max))
pins: 1 OUT (power), 2 VDD (power), 3 VSS (power)

## MCP112-270E/TO
designator U?
1.75µA Micropower Voltage Detector, Push-Pull Output, 2.63V, 3-Pin TO-92, Extended Temperature; Published: 29-Jan-2009; DatasheetVersion: revD, Jun-2005; PackageVersion: revBB, Aug-2009; PackageReference: TO-92-TO3; Publisher: Altium Limited; PackageDescription: 3-Lead Plastic Transistor Outline (TO) [TO-92]; Supplier 1: Digi-Key; Supplier Part Number 1: MCP112-270E/TO-ND; ComponentLink1Description: Datasheet; ComponentLink1URL: http://ww1.microchip.com/downloads/en/DeviceDoc/21889d.pdf; ComponentLink2Description: Packaging Specification; ComponentLink2URL: http://www.microchip.com/stellent/groups/techpub_sg/documents/packagingspec/en012702.pdf; ComponentLink3Description: Microchip.com Home; ComponentLink3URL: http://www.microchip.com/
footprint TO-92-TO3 (TO, Flat Index; 3 In-Line, Axial Leads; Body Dia. 4.8mm; Leads 0.56 x 0.53 mm (max))
pins: 1 OUT (power), 2 VDD (power), 3 VSS (power)

## MCP112-290E/TO
designator U?
1.75µA Micropower Voltage Detector, Push-Pull Output, 2.90V, 3-Pin TO-92, Extended Temperature; Published: 2-Dec-2009; DatasheetVersion: revD, Jun-2005; PackageVersion: revBB, Aug-2009; PackageReference: TO-92-TO3; Publisher: Altium Limited; PackageDescription: 3-Lead Plastic Transistor Outline (TO) [TO-92]; Supplier 1: Digi-Key; Supplier Part Number 1: MCP112-290E/TO-ND; Supplier 2: Farnell; Supplier Part Number 2: 1332059; ComponentLink1Description: Datasheet; ComponentLink1URL: http://ww1.microchip.com/downloads/en/DeviceDoc/21889d.pdf; ComponentLink2Description: Packaging Specification; ComponentLink2URL: http://www.microchip.com/stellent/groups/techpub_sg/documents/packagingspec/en012702.pdf; ComponentLink3Description: Microchip.com Home; ComponentLink3URL: http://www.microchip.com/
footprint TO-92-TO3 (TO, Flat Index; 3 In-Line, Axial Leads; Body Dia. 4.8mm; Leads 0.56 x 0.53 mm (max))
pins: 1 OUT (power), 2 VDD (power), 3 VSS (power)

## MCP112-315E/TO
designator U?
1.75µA Micropower Voltage Detector, Push-Pull Output, 3.08V, 3-Pin TO-92, Extended Temperature; Published: 2-Dec-2009; DatasheetVersion: revD, Jun-2005; PackageVersion: revBB, Aug-2009; PackageReference: TO-92-TO3; Publisher: Altium Limited; PackageDescription: 3-Lead Plastic Transistor Outline (TO) [TO-92]; Supplier 1: Digi-Key; Supplier Part Number 1: MCP112-315E/TO-ND; ComponentLink1Description: Datasheet; ComponentLink1URL: http://ww1.microchip.com/downloads/en/DeviceDoc/21889d.pdf; ComponentLink2Description: Packaging Specification; ComponentLink2URL: http://www.microchip.com/stellent/groups/techpub_sg/documents/packagingspec/en012702.pdf; ComponentLink3Description: Microchip.com Home; ComponentLink3URL: http://www.microchip.com/
footprint TO-92-TO3 (TO, Flat Index; 3 In-Line, Axial Leads; Body Dia. 4.8mm; Leads 0.56 x 0.53 mm (max))
pins: 1 OUT (power), 2 VDD (power), 3 VSS (power)

## MCP112-450E/TO
designator U?
1.75µA Micropower Voltage Detector, Push-Pull Output, 4.38V, 3-Pin TO-92, Extended Temperature; Published: 29-Jan-2009; DatasheetVersion: revD, Jun-2005; PackageVersion: revBB, Aug-2009; PackageReference: TO-92-TO3; Publisher: Altium Limited; PackageDescription: 3-Lead Plastic Transistor Outline (TO) [TO-92]; Supplier 1: Digi-Key; Supplier Part Number 1: MCP112-450E/TO-ND; Supplier 2: Farnell; Supplier Part Number 2: 1332060; ComponentLink1Description: Datasheet; ComponentLink1URL: http://ww1.microchip.com/downloads/en/DeviceDoc/21889d.pdf; ComponentLink2Description: Packaging Specification; ComponentLink2URL: http://www.microchip.com/stellent/groups/techpub_sg/documents/packagingspec/en012702.pdf; ComponentLink3Description: Microchip.com Home; ComponentLink3URL: http://www.microchip.com/
footprint TO-92-TO3 (TO, Flat Index; 3 In-Line, Axial Leads; Body Dia. 4.8mm; Leads 0.56 x 0.53 mm (max))
pins: 1 OUT (power), 2 VDD (power), 3 VSS (power)

## MCP112T-195I/LB
designator U?
1.75µA Micropower Voltage Detector, Push-Pull Output, 1.90V, 3-Pin SC-70, Industrial Temperature, Tape and Reel; Published: 29-Jan-2009; DatasheetVersion: revD, Jun-2005; PackageVersion: revBB, Aug-2009; PackageReference: SC70-LB3; Publisher: Altium Limited; PackageDescription: 3-Lead Plastic Small Outline Transistor (LB) [SC70]; Supplier 1: Digi-Key; Supplier Part Number 1: MCP112T-195I/LB-ND; ComponentLink1Description: Datasheet; ComponentLink1URL: http://ww1.microchip.com/downloads/en/DeviceDoc/21889d.pdf; ComponentLink2Description: Packaging Specification; ComponentLink2URL: http://www.microchip.com/stellent/groups/techpub_sg/documents/packagingspec/en012702.pdf; ComponentLink3Description: Microchip.com Home; ComponentLink3URL: http://www.microchip.com/
footprint SC70-LB3_N (SOT323, 3-Leads, Body 2.0x1.3mm, Pitch 0.65mm, Lead Span 2.1mm, IPC Medium Density)
footprint SC70-LB3_L (SOT323, 3-Leads, Body 2.0x1.3mm, Pitch 0.65mm, Lead Span 2.1mm, IPC High Density)
footprint SC70-LB3_M (SOT323, 3-Leads, Body 2.0x1.3mm, Pitch 0.65mm, Lead Span 2.1mm, IPC Low Density)
pins: 1 OUT (power), 2 VSS (power), 3 VDD (power)

## MCP112T-195I/MB
designator U?
1.75µA Micropower Voltage Detector, Push-Pull Output, 1.90V, 3-Pin SOT-89, Industrial Temperature, Tape and Reel; Published: 29-Jan-2009; DatasheetVersion: revD, Jun-2005; PackageVersion: revBB, Aug-2009; PackageReference: SOT-89-MB3; Publisher: Altium Limited; PackageDescription: 3-Lead Plastic Small Outline Transistor Header (MB) [SOT-89]; Supplier 1: Digi-Key; Supplier Part Number 1: MCP112T-195I/MB-ND; Code_IPC: SOT89; ComponentLink1Description: Datasheet; ComponentLink1URL: http://ww1.microchip.com/downloads/en/DeviceDoc/21889d.pdf; ComponentLink2Description: Packaging Specification; ComponentLink2URL: http://www.microchip.com/stellent/groups/techpub_sg/documents/packagingspec/en012702.pdf; ComponentLink3Description: Microchip.com Home; ComponentLink3URL: http://www.microchip.com/
footprint SOT-89-MB3_N (SOT89, 3-Leads, Body 4.5x2.4 mm, Pitch 1.5mm, Lead Span 4.1mm, IPC Medium Density)
footprint SOT-89-MB3_L (SOT89, 3-Leads, Body 4.5x2.4 mm, Pitch 1.5mm, Lead Span 4.1mm, IPC High Density)
footprint SOT-89-MB3_M (SOT89, 3-Leads, Body 4.5x2.4 mm, Pitch 1.5mm, Lead Span 4.1mm, IPC Low Density)
pins: 1 OUT (power), 2 VDD (power), 3 VSS (power)

## MCP112T-195I/TT
designator U?
1.75µA Micropower Voltage Detector, Push-Pull Output, 1.90V, 3-Pin SOT-23, Industrial Temperature, Tape and Reel; Published: 29-Jan-2009; DatasheetVersion: revD, Jun-2005; PackageVersion: revBB, Aug-2009; PackageReference: SOT-23-TT3; Publisher: Altium Limited; PackageDescription: 3-Lead Plastic Small Outline Transistor (TT) [SOT-23]; Supplier 1: Digi-Key; Supplier Part Number 1: MCP112T-195I/TT-ND; Code_IPC: SOT23-3; ComponentLink1Description: Datasheet; ComponentLink1URL: http://ww1.microchip.com/downloads/en/DeviceDoc/21889d.pdf; ComponentLink2Description: Packaging Specification; ComponentLink2URL: http://www.microchip.com/stellent/groups/techpub_sg/documents/packagingspec/en012702.pdf; ComponentLink3Description: Microchip.com Home; ComponentLink3URL: http://www.microchip.com/
footprint SOT-23-TT3_N (SOT23, 3-Leads, Body 2.9x1.3mm, Pitch 0.95mm, Lead Span 2.4mm, IPC Medium Density)
footprint SOT-23-TT3_L (SOT23, 3-Leads, Body 2.9x1.3mm, Pitch 0.95mm, Lead Span 2.4mm, IPC High Density)
footprint SOT-23-TT3_M (SOT23, 3-Leads, Body 2.9x1.3mm, Pitch 0.95mm, Lead Span 2.4mm, IPC Low Density)
pins: 1 OUT (power), 2 VSS (power), 3 VDD (power)

## MCP112T-240E/LB
designator U?
1.75µA Micropower Voltage Detector, Push-Pull Output, 2.32V, 3-Pin SC-70, Extended Temperature, Tape and Reel; Published: 29-Jan-2009; DatasheetVersion: revD, Jun-2005; PackageVersion: revBB, Aug-2009; PackageReference: SC70-LB3; Publisher: Altium Limited; PackageDescription: 3-Lead Plastic Small Outline Transistor (LB) [SC70]; Supplier 1: Digi-Key; Supplier Part Number 1: MCP112T-240E/LBTR-ND; Supplier 2: Digi-Key; Supplier Part Number 2: MCP112T-240E/LBCT-ND; Supplier 3: Digi-Key; Supplier Part Number 3: MCP112T-240E/LBDKR-ND; ComponentLink1Description: Datasheet; ComponentLink1URL: http://ww1.microchip.com/downloads/en/DeviceDoc/21889d.pdf; ComponentLink2Description: Packaging Specification; ComponentLink2URL: http://www.microchip.com/stellent/groups/techpub_sg/documents/packagingspec/en012702.pdf; ComponentLink3Description: Microchip.com Home; ComponentLink3URL: http://www.microchip.com/
footprint SC70-LB3_N (SOT323, 3-Leads, Body 2.0x1.3mm, Pitch 0.65mm, Lead Span 2.1mm, IPC Medium Density)
footprint SC70-LB3_L (SOT323, 3-Leads, Body 2.0x1.3mm, Pitch 0.65mm, Lead Span 2.1mm, IPC High Density)
footprint SC70-LB3_M (SOT323, 3-Leads, Body 2.0x1.3mm, Pitch 0.65mm, Lead Span 2.1mm, IPC Low Density)
pins: 1 OUT (power), 2 VSS (power), 3 VDD (power)

## MCP112T-240E/MB
designator U?
1.75µA Micropower Voltage Detector, Push-Pull Output, 2.32V, 3-Pin SOT-89, Extended Temperature, Tape and Reel; Published: 29-Jan-2009; DatasheetVersion: revD, Jun-2005; PackageVersion: revBB, Aug-2009; PackageReference: SOT-89-MB3; Publisher: Altium Limited; PackageDescription: 3-Lead Plastic Small Outline Transistor Header (MB) [SOT-89]; Supplier 1: Digi-Key; Supplier Part Number 1: MCP112T-240E/MB-ND; Code_IPC: SOT89; ComponentLink1Description: Datasheet; ComponentLink1URL: http://ww1.microchip.com/downloads/en/DeviceDoc/21889d.pdf; ComponentLink2Description: Packaging Specification; ComponentLink2URL: http://www.microchip.com/stellent/groups/techpub_sg/documents/packagingspec/en012702.pdf; ComponentLink3Description: Microchip.com Home; ComponentLink3URL: http://www.microchip.com/
footprint SOT-89-MB3_N (SOT89, 3-Leads, Body 4.5x2.4 mm, Pitch 1.5mm, Lead Span 4.1mm, IPC Medium Density)
footprint SOT-89-MB3_L (SOT89, 3-Leads, Body 4.5x2.4 mm, Pitch 1.5mm, Lead Span 4.1mm, IPC High Density)
footprint SOT-89-MB3_M (SOT89, 3-Leads, Body 4.5x2.4 mm, Pitch 1.5mm, Lead Span 4.1mm, IPC Low Density)
pins: 1 OUT (power), 2 VDD (power), 3 VSS (power)

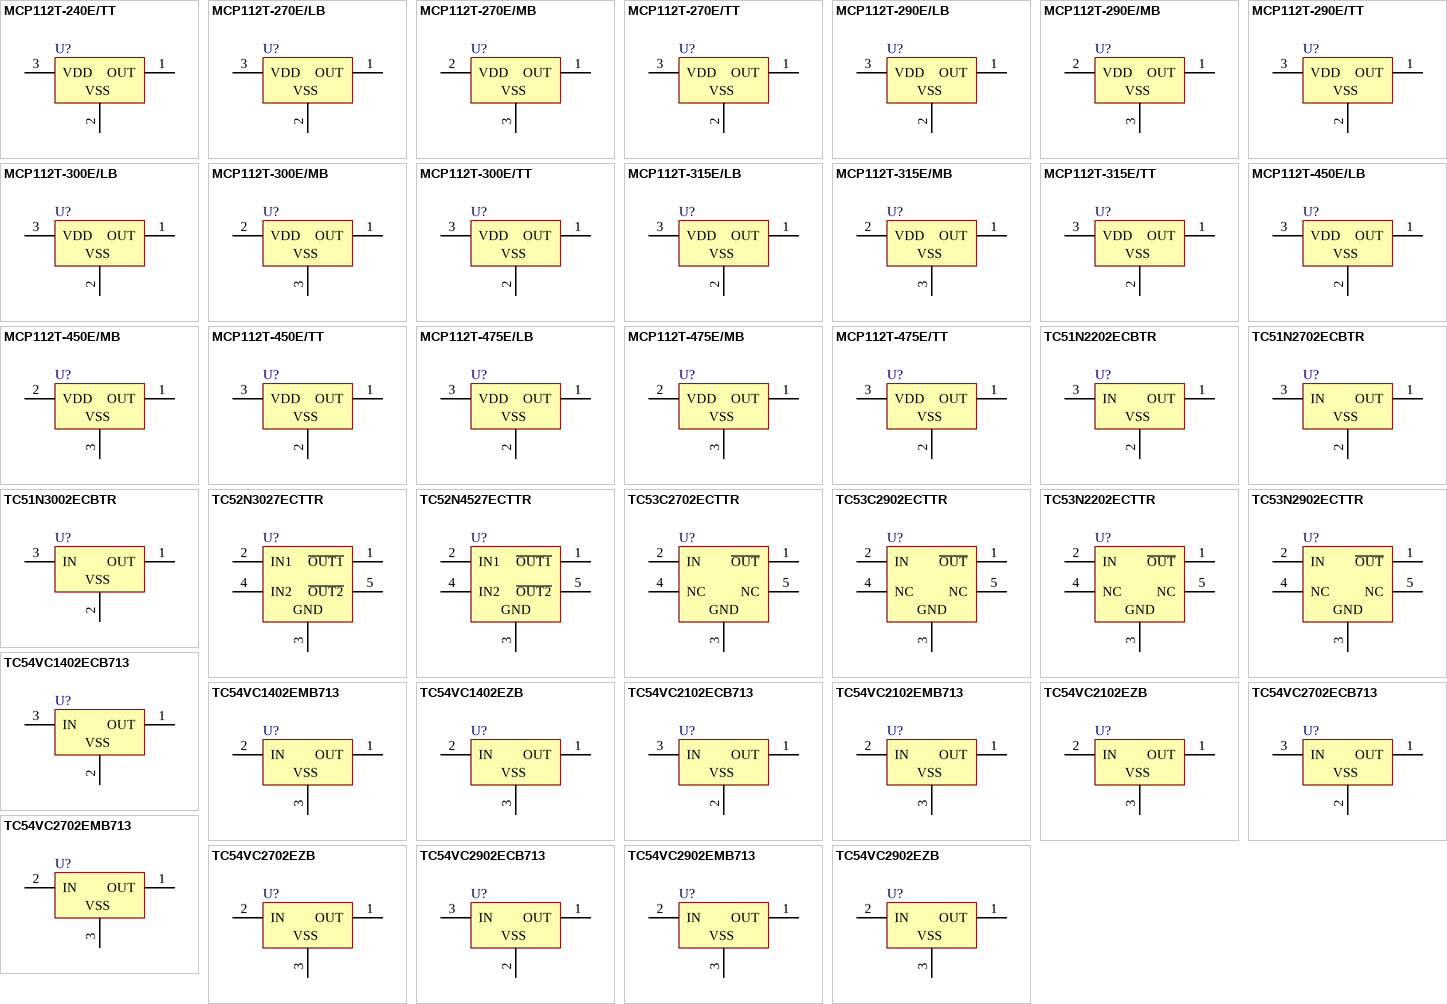
[diagram p1: symbols MCP112T-240E/TT to TC54VC2902EZB]

## MCP112T-240E/TT
designator U?
1.75µA Micropower Voltage Detector, Push-Pull Output, 2.32V, 3-Pin SOT-23, Extended Temperature, Tape and Reel; Published: 29-Jan-2009; DatasheetVersion: revD, Jun-2005; PackageVersion: revBB, Aug-2009; PackageReference: SOT-23-TT3; Publisher: Altium Limited; PackageDescription: 3-Lead Plastic Small Outline Transistor (TT) [SOT-23]; Supplier 1: Digi-Key; Supplier Part Number 1: MCP112T-240E/TTTR-ND; Supplier 2: Digi-Key; Supplier Part Number 2: MCP112T-240E/TTCT-ND; Supplier 3: Digi-Key; Supplier Part Number 3: MCP112T-240E/TTDKR-ND; Code_IPC: SOT23-3; ComponentLink1Description: Datasheet; ComponentLink1URL: http://ww1.microchip.com/downloads/en/DeviceDoc/21889d.pdf; ComponentLink2Description: Packaging Specification; ComponentLink2URL: http://www.microchip.com/stellent/groups/techpub_sg/documents/packagingspec/en012702.pdf; ComponentLink3Description: Microchip.com Home; ComponentLink3URL: http://www.microchip.com/
footprint SOT-23-TT3_N (SOT23, 3-Leads, Body 2.9x1.3mm, Pitch 0.95mm, Lead Span 2.4mm, IPC Medium Density)
footprint SOT-23-TT3_L (SOT23, 3-Leads, Body 2.9x1.3mm, Pitch 0.95mm, Lead Span 2.4mm, IPC High Density)
footprint SOT-23-TT3_M (SOT23, 3-Leads, Body 2.9x1.3mm, Pitch 0.95mm, Lead Span 2.4mm, IPC Low Density)
pins: 1 OUT (power), 2 VSS (power), 3 VDD (power)